# Altium schematic symbol library CON-2.Schlib: 1 symbol
Pins are listed as number, name and electrical type; pins without a type are passive.

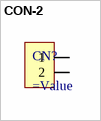
[diagram p0: symbol CON-2]

## CON-2
designator CN?
=Description
pins: 1, 2